# Altium schematic symbol library TPS7A3301RGWR.SchLib: 1 symbol
Pins are listed as number, name and electrical type; pins without a type are passive.

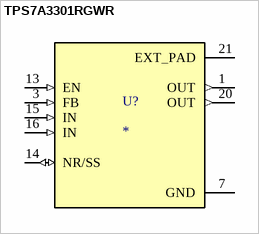
[diagram p0: symbol TPS7A3301RGWR]

## TPS7A3301RGWR
designator U?
–36-V, 1-A, Ultralow-Noise Negative Voltage Regulator; Назначение: Регулируемый стабилизатор с низким падением напряжения отрицательной полярности, 1.18 В/33 В, 0.2 А; Потрбление, Вт: 1 (max); Наименование: TPS7A33; ComponentLink1Description: DataSheet; ComponentLink1URL: https://static.chipdip.ru/lib/562/DOC059562669.pdf
footprint QFN-20
pins: 1 OUT (out), 3 FB (in), 7 GND (power), 13 EN (in), 14 NR/SS (io), 15 IN (in), 16 IN (in), 20 OUT (out), 21 EXT_PAD (power)